# EAGLE library part MINI_DIN_6 (library Custom)
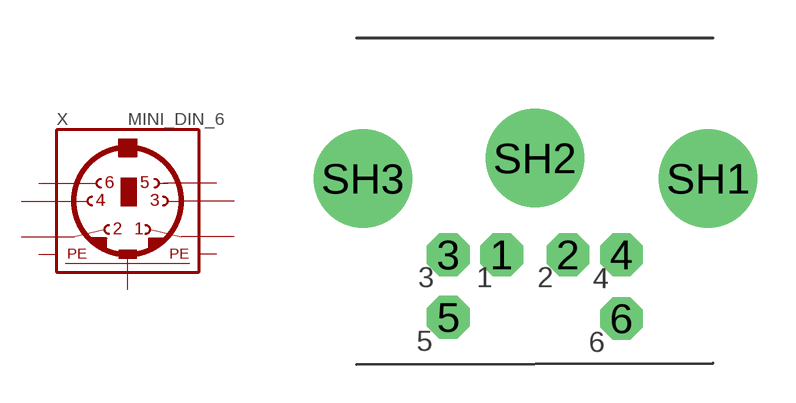
[diagram p67: symbol with the pads of M_DIN6; footprint M_DIN6]

Designator prefix X

## MINI_DIN_6  [M_DIN6]
1  1  pas
2  2  pas
3  3  pas
4  4  pas
5  5  pas
6  6  pas
SH1  PE1  pwr
SH2  PE2  pwr
SH3  PE3  pwr

## Footprint M_DIN6 (pad centres in mm)
drill 0.914 pad 1.676 octagon: 1 -1.3,-3.75; 2 1.3,-3.75; 3 -3.4,-3.75; 4 3.4,-3.75; 5 -3.4,-6.2; 6 3.4,-6.25
drill 1.93 pad 3.861: SH1 6.8,-0.75; SH2 0,0.05; SH3 -6.75,-0.75